# EAGLE library part 15EDGRC3.5-06 (library den)
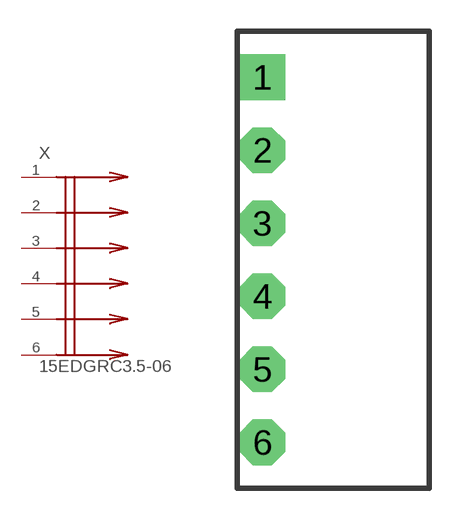
[diagram p10: symbol with the pads of 15EDGRC-3.5-06; footprint 15EDGRC-3.5-06]

Designator prefix X

## 15EDGRC3.5-06  [15EDGRC-3.5-06]
1  1
2  2
3  3
4  4
5  5
6  6

## Footprint 15EDGRC-3.5-06 (pad centres in mm)
drill 1.2 pad 2.184 square: 1 0,0
drill 1.2 pad 2.184 octagon: 2 0,-3.5; 3 0,-7; 4 0,-10.5; 5 0,-14; 6 0,-17.5